# Altium footprint library SJ1-42515TS.PcbLib: 1 footprints
Each footprint in its own frame and in the unit in brackets; x right, y up, seen from the top. Pads: shape width x height; smd on the part's side, far side on the other; paste and mask are expansions set on the pad; w line width, h text height; cw(c..) or ccw(c..) is an arc to the next point about the centre after c.
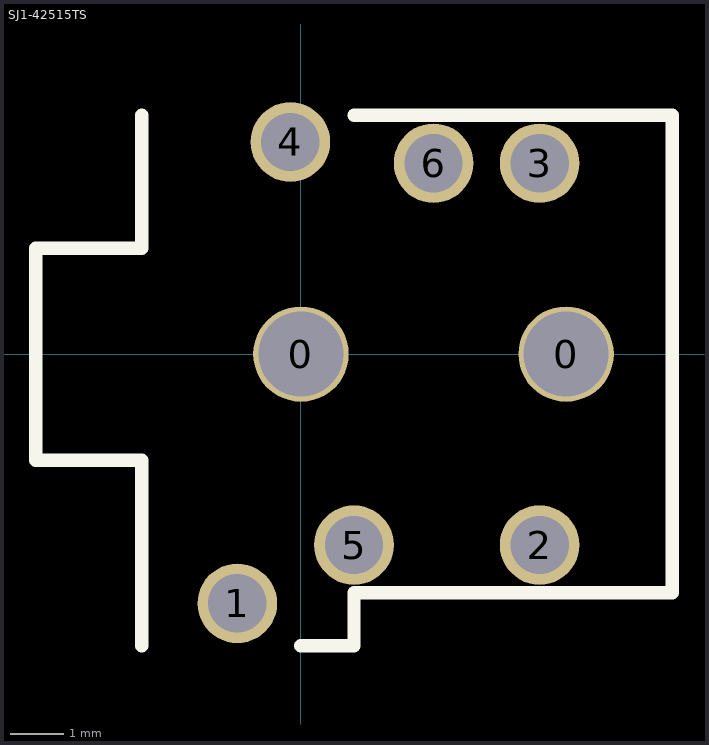
[diagram p0: the footprint, top view; thin cyan lines are the x and y axes]

## SJ1-42515TS [mm] "4 connector plus tip switch audio jack 2.5mm"
height 4
pads (8):
  round 1.8 hole 1.6: 0(0,0) 0(5,0)
  round 1.5 hole 1.1: 1(-1.2,-4.7) 2(4.5,-3.6) 3(4.5,3.6) 4(-0.2,4) 5(1,-3.6) 6(2.5,3.6)
Top Overlay:
  lines w0.254: -3,-5.5 -3,-2 -5,-2 -5,2 -3,2 -3,4.5 ; 0,-5.5 1,-5.5 1,-4.5 7,-4.5 7,4.5 1,4.5